# EAGLE library part TPS76850 (library TPSRegulators)
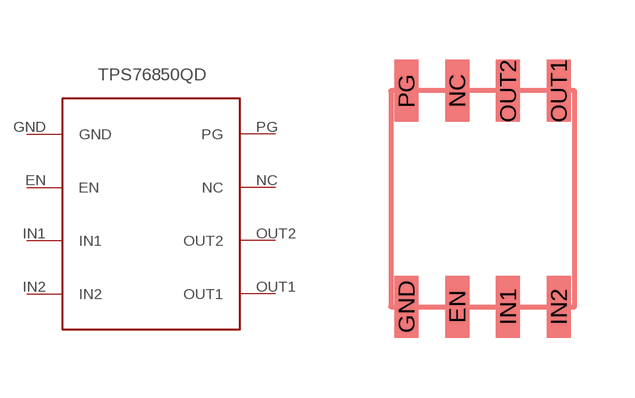
[diagram p0: symbol with the pads of 8-SOIC(SMT); footprint 8-SOIC(SMT)]

Designator prefix -

## TPS76850  [8-SOIC(SMT)]
EN  EN
GND  GND
IN1  IN1
IN2  IN2
NC  NC
OUT1  OUT1
OUT2  OUT2
PG  PG

## Footprint 8-SOIC(SMT) (pad centres in mm)
smd 0.6 x 1.55: EN -0.635,-2.7; GND -1.905,-2.7; IN1 0.635,-2.7; IN2 1.905,-2.7; NC -0.635,2.7; OUT1 1.905,2.7; OUT2 0.635,2.7; PG -1.905,2.7